# EAGLE library part KTS1620ERG-TR (library KTS1620ERG-TR)
Interface - I/O Expanders Low Voltage 24-bit I2C-bus I/O Expander Source: Datasheet
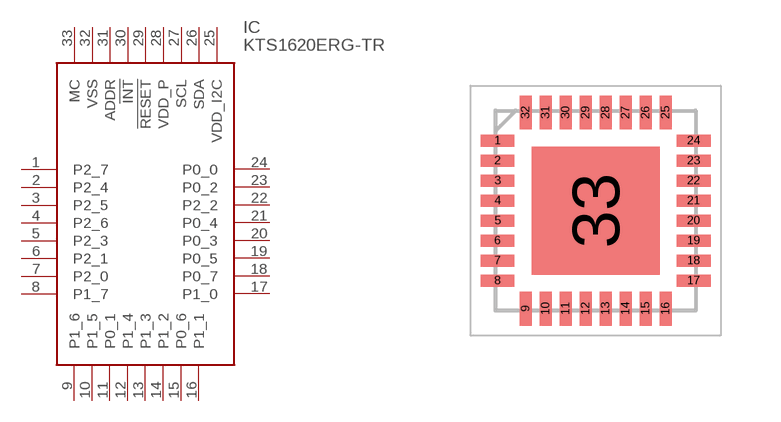
[diagram p0: symbol with the pads of QFN50P500X500X80-33N; footprint QFN50P500X500X80-33N]

Designator prefix IC

## KTS1620ERG-TR (Description: Interface - I/O Expanders Low Voltage 24-bit I2C-bus I/O Expander; Height: 0.8mm; Manufacturer_Name: Kinetic Technologies; Manufacturer_Part_Number: KTS1620ERG-TR)  [QFN50P500X500X80-33N]
1  P2_7
2  P2_4
3  P2_5
4  P2_6
5  P2_3
6  P2_1
7  P2_0
8  P1_7
9  P1_6
10  P1_5
11  P0_1
12  P1_4
13  P1_3
14  P1_2
15  P0_6
16  P1_1
17  P1_0
18  P0_7
19  P0_5
20  P0_3
21  P0_4
22  P2_2
23  P0_2
24  P0_0
25  VDD_I2C
26  SDA
27  SCL
28  VDD_P
29  !RESET
30  !INT
31  ADDR
32  VSS
33  MC

## Footprint QFN50P500X500X80-33N (pad centres in mm)
TQFN55-32 (5.00mm x 5.00mm x 0.75mm)
smd 0.85 x 0.3: 1 -2.45,1.75; 2 -2.45,1.25; 3 -2.45,0.75; 4 -2.45,0.25; 5 -2.45,-0.25; 6 -2.45,-0.75; 7 -2.45,-1.25; 8 -2.45,-1.75; 17 2.45,-1.75; 18 2.45,-1.25; 19 2.45,-0.75; 20 2.45,-0.25; 21 2.45,0.25; 22 2.45,0.75; 23 2.45,1.25; 24 2.45,1.75
smd 0.3 x 0.85: 9 -1.75,-2.45; 10 -1.25,-2.45; 11 -0.75,-2.45; 12 -0.25,-2.45; 13 0.25,-2.45; 14 0.75,-2.45; 15 1.25,-2.45; 16 1.75,-2.45; 25 1.75,2.45; 26 1.25,2.45; 27 0.75,2.45; 28 0.25,2.45; 29 -0.25,2.45; 30 -0.75,2.45; 31 -1.25,2.45; 32 -1.75,2.45
smd 3.2 x 3.2: 33 0,0